# EAGLE library part BNO055 (library stepOSP)
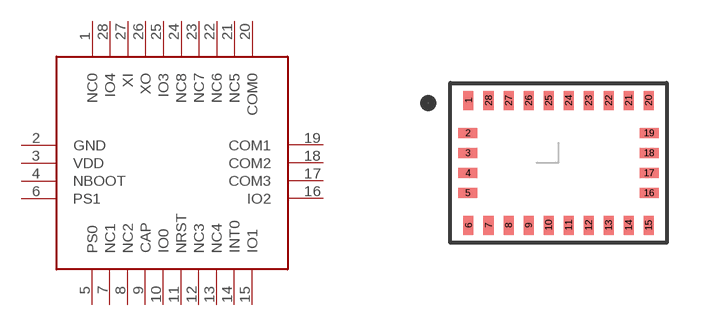
[diagram p28: symbol with the pads of BNO055; footprint BNO055]

Designator prefix -

## BNO055  [BNO055]
1  NC0
2  GND
3  VDD
4  NBOOT
5  PS0
6  PS1
7  NC1
8  NC2
9  CAP
10  IO0
11  NRST
12  NC3
13  NC4
14  INT0
15  IO1
16  IO2
17  COM3
18  COM2
19  COM1
20  COM0
21  NC5
22  NC6
23  NC7
24  NC8
25  IO3
26  XO
27  XI
28  IO4

## Footprint BNO055 (pad centres in mm)
smd 0.25 x 0.475: 1 -2.25,1.562; 6 -2.25,-1.562; 7 -1.75,-1.562; 8 -1.25,-1.562; 9 -0.75,-1.562; 10 -0.25,-1.562; 11 0.25,-1.562; 12 0.75,-1.562; 13 1.25,-1.562; 14 1.75,-1.562; 15 2.25,-1.562; 20 2.25,1.562; 21 1.75,1.562; 22 1.25,1.562; 23 0.75,1.562; 24 0.25,1.562; 25 -0.25,1.562; 26 -0.75,1.562; 27 -1.25,1.562; 28 -1.75,1.562
smd 0.475 x 0.25: 2 -2.263,0.75; 3 -2.263,0.25; 4 -2.263,-0.25; 5 -2.263,-0.75; 16 2.263,-0.75; 17 2.263,-0.25; 18 2.263,0.25; 19 2.263,0.75